# EAGLE library part MICRO-SD-CARD-HOLDER-8P (library Connector)
320090002
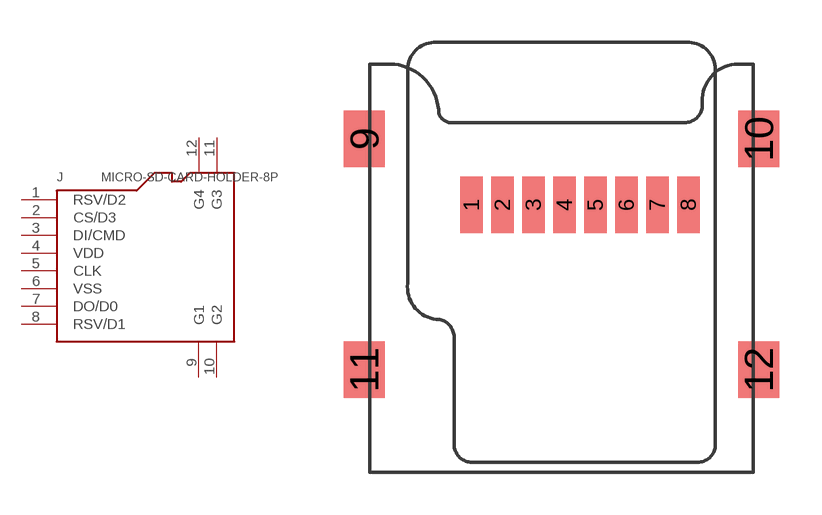
[diagram p10: symbol with the pads of 8+4P-SMD-COVER; footprint 8+4P-SMD-COVER]

Designator prefix J

## MICRO-SD-CARD-HOLDER-8P  [8+4P-SMD-COVER]
1  RSV/D2
2  CS/D3
3  DI/CMD
4  VDD
5  CLK
6  VSS
7  DO/D0
8  RSV/D1
9  G1
10  G2
11  G3
12  G4

## Footprint 8+4P-SMD-COVER (pad centres in mm)
smd 0.8 x 2.008: 1 -3.198,0.254; 2 -2.098,0.254; 3 -0.998,0.254; 4 0.102,0.254; 5 1.202,0.254; 6 2.302,0.254; 7 3.402,0.254; 8 4.502,0.254
smd 1.45 x 2: 9 -7.002,2.6; 10 7.002,2.6; 11 -7.002,-5.598; 12 7.002,-5.598